# Altium schematic symbol library SCH - DIODES - ON SEMI ESD9X5.0ST5G.SCHLIB: 1 symbol
Pins are listed as number, name and electrical type; pins without a type are passive.

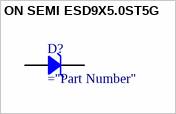
[diagram p0: symbol ON SEMI ESD9X5.0ST5G]

## ON SEMI ESD9X5.0ST5G
designator D?
Rectifier Diode
pins: 1 A, 2 K